# Altium schematic symbol library led_ring.SchLib: 5 symbols
Pins are listed as number, name and electrical type; pins without a type are passive.

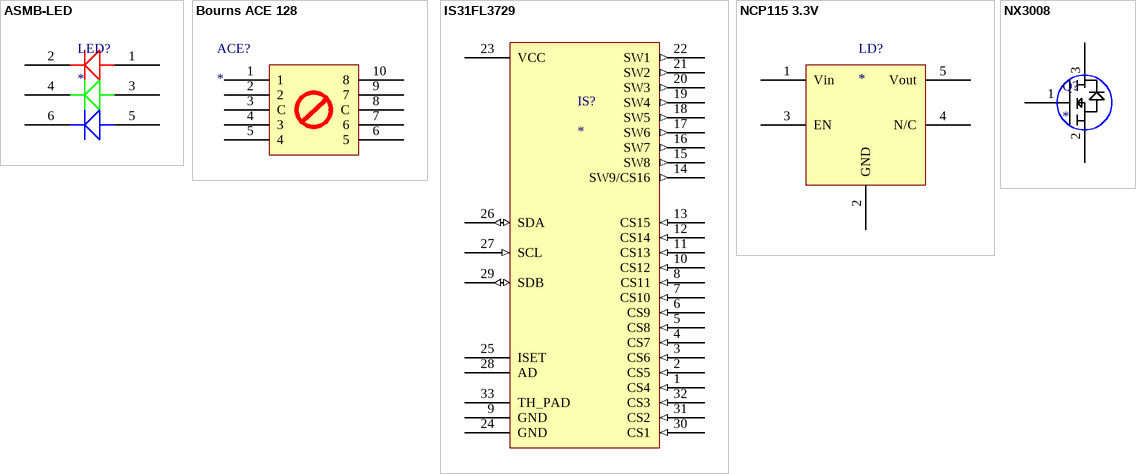
[diagram p0: symbols ASMB-LED to NX3008]

## ASMB-LED
designator LED?
footprint ASMB-LED
pins: 1, 2, 3, 4, 5, 6

## Bourns ACE 128
designator ACE?
footprint Bourns ACE 128
pins: 1, 2, 3 C, 4 3, 5 4, 6 5, 7 6, 8 C, 9 7, 10 8

## IS31FL3729
designator IS?
footprint QFN40P400X400X80_HS-33L (QFN, 32-Leads, Body 4,00x4,00mm, Pitch 0,40mm, Thermal Pad 2,80x2,80mm, IPC High Density)
pins: 1 CS4 (in), 2 CS5 (in), 3 CS6 (in), 4 CS7 (in), 5 CS8 (in), 6 CS9 (in), 7 CS10 (in), 8 CS11 (in), 9 GND (power), 10 CS12 (in), 11 CS13 (in), 12 CS14 (in), 13 CS15 (in), 14 SW9/CS16 (out), 15 SW8 (out), 16 SW7 (out), 17 SW6 (out), 18 SW5 (out), 19 SW4 (out), 20 SW3 (out), 21 SW2 (out), 22 SW1 (out), 23 VCC (power), 24 GND (power), 25 ISET (power), 26 SDA (io), 27 SCL (in), 28 AD (power), 29 SDB (io), 30 CS1 (in), 31 CS2 (in), 32 CS3 (in), 33 TH_PAD

## NCP115 3.3V
designator LD?
footprint TSOP95P280X110-6L (TSOP, 6-Leads, Body 2,87x1,50mm, Pitch 0,95mm, IPC High Density)
pins: 1 Vin, 2 GND, 3 EN, 4 N/C, 5 Vout

## NX3008
designator Q?
footprint SOT95P230X110-3L (SOT23, 3-Leads, Body 2,90x2,30mm, Pitch 0,95mm, IPC High Density)
pins: 1 G, 2 S, 3 S